# Altium integrated library PMEG3050EP.IntLib: 1 symbol
Pins are listed as number, name and electrical type; pins without a type are passive.

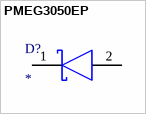
[diagram p0: symbol PMEG3050EP]

## PMEG3050EP
designator D?
Diode; Manufacturer_Name: Nexperia; Manufacturer_Part_Number: PMEG3050EP; Datasheet Link: http://uk.rs-online.com/web/p/products/1038095; Height: 1.1mm; Mouser Part Number: N/A; Mouser Price/Stock: https://www.mouser.com/Search/Refine.aspx?Keyword=N%2FA
footprint SOD4725X110N
pins: 1 K, 2 A